# EAGLE library part GY-9833 (library GY-9833)
AD9833 DDS Signal Generator Evaluation Board with 25 MHz Clock
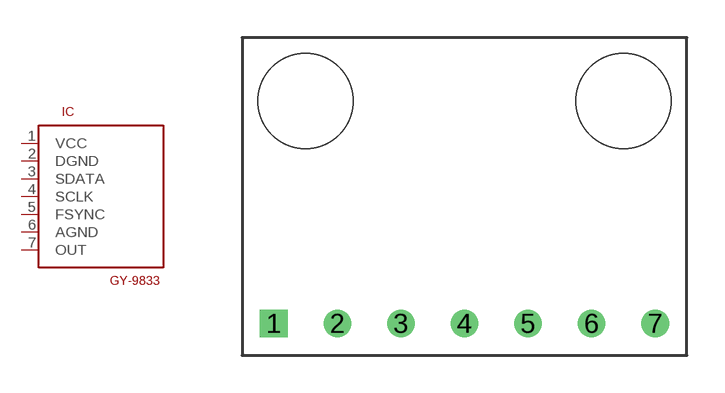
[diagram p0: symbol with the pads of GY-9833; footprint GY-9833]

Designator prefix IC

## GY-9833  [GY-9833]
1  VCC
2  DGND
3  SDATA
4  SCLK
5  FSYNC
6  AGND
7  OUT

## Footprint GY-9833 (pad centres in mm)
drill 0.6 square: 1 1.27,1.27
drill 0.6: 2 3.81,1.27; 3 6.35,1.27; 4 8.89,1.27; 5 11.43,1.27; 6 13.97,1.27; 7 16.51,1.27
hole 3.81 at 2.54,10.16
hole 3.81 at 15.24,10.16